# Altium schematic symbol library CX2520DB38400D0FZGC1.SchLib: 1 symbol
Pins are listed as number, name and electrical type; pins without a type are passive.

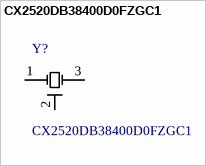
[diagram p0: symbol CX2520DB38400D0FZGC1]

## CX2520DB38400D0FZGC1
designator Y?
Crystal 38.4MHz 8pF 4-Pin SMD T/R; Manufacturer: Kyocera Electronic Components; Mouser Part Number: 581-CX2520DB3D0FZGC1; Manufacturer Part Number: CX2520DB38400D0FZGC1; MouserURL: https://www.mouser.com/ProductDetail/Kyocera-Electronic-Components/CX2520DB38400D0FZGC1?qs=BybUIy1AcUarvw5E5YY0vQ%3D%3D
footprint *OSCCC250X200X55N
pins: 1, 2 GND, 3